# EAGLE library part SI4532ADY (library imported-parts)
N and P MOSFETS
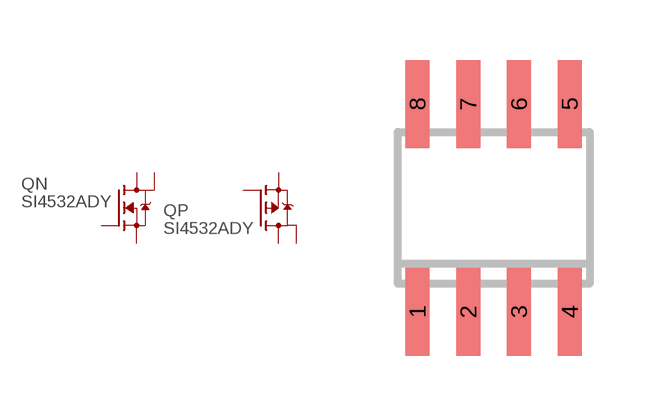
[diagram p4: symbol with the pads of SO8; footprint SO8]

Designator prefix Q; gates N=N-MOSFETDD P=P-MOSFETDD

## SI4532ADY  [SO8]
1  N:S  pas
2  N:G  pas
3  P:S  pas
4  P:G  pas
5  P:D  pas
6  P:D  pas
7  N:D  pas
8  N:D  pas

## Footprint SO8 (pad centres in mm)
SMALL OUTLINE INTEGRATED CIRCUIT
smd 0.6 x 2.2: 1 -1.905,-2.6; 2 -0.635,-2.6; 3 0.635,-2.6; 4 1.905,-2.6; 5 1.905,2.6; 6 0.635,2.6; 7 -0.635,2.6; 8 -1.905,2.6